# EAGLE library part EFM8BB31QFP32 (library EFM8BB31F16G-A-QFP32)
EFM8BB31F16G-A-QFP32
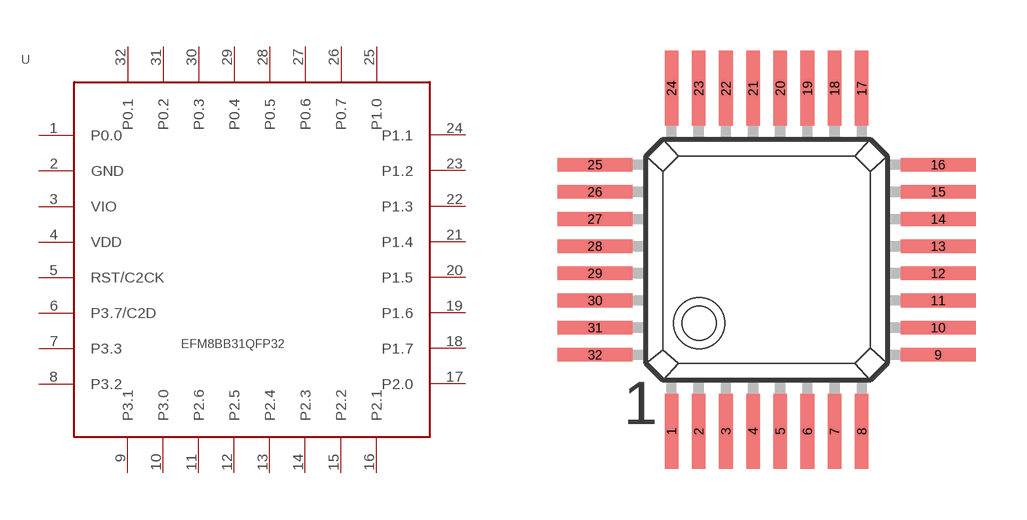
[diagram p0: symbol with the pads of QFP-32; footprint QFP-32]

Designator prefix -

## EFM8BB31QFP32QFP32  [QFP-32]
1  P0.0
2  GND
3  VIO
4  VDD
5  RST/C2CK
6  P3.7/C2D
7  P3.3
8  P3.2
9  P3.1
10  P3.0
11  P2.6
12  P2.5
13  P2.4
14  P2.3
15  P2.2
16  P2.1
17  P2.0
18  P1.7
19  P1.6
20  P1.5
21  P1.4
22  P1.3
23  P1.2
24  P1.1
25  P1.0
26  P0.7
27  P0.6
28  P0.5
29  P0.4
30  P0.3
31  P0.2
32  P0.1

## Footprint QFP-32 (pad centres in mm)
Quad Flat Package
smd 0.4 x 2.2: 1 -2.4,-4.65; 2 -1.6,-4.65; 3 -0.8,-4.65; 4 0,-4.65; 5 0.8,-4.65; 6 1.6,-4.65; 7 2.4,-4.65; 8 3.2,-4.65; 17 3.2,5.45; 18 2.4,5.45; 19 1.6,5.45; 20 0.8,5.45; 21 0,5.45; 22 -0.8,5.45; 23 -1.6,5.45; 24 -2.4,5.45
smd 2.2 x 0.4: 9 5.45,-2.4; 10 5.45,-1.6; 11 5.45,-0.8; 12 5.45,0; 13 5.45,0.8; 14 5.45,1.6; 15 5.45,2.4; 16 5.45,3.2; 25 -4.65,3.2; 26 -4.65,2.4; 27 -4.65,1.6; 28 -4.65,0.8; 29 -4.65,0; 30 -4.65,-0.8; 31 -4.65,-1.6; 32 -4.65,-2.4